# Altium schematic symbol library OLED.SchLib: 5 symbols
Pins are listed as number, name and electrical type; pins without a type are passive.

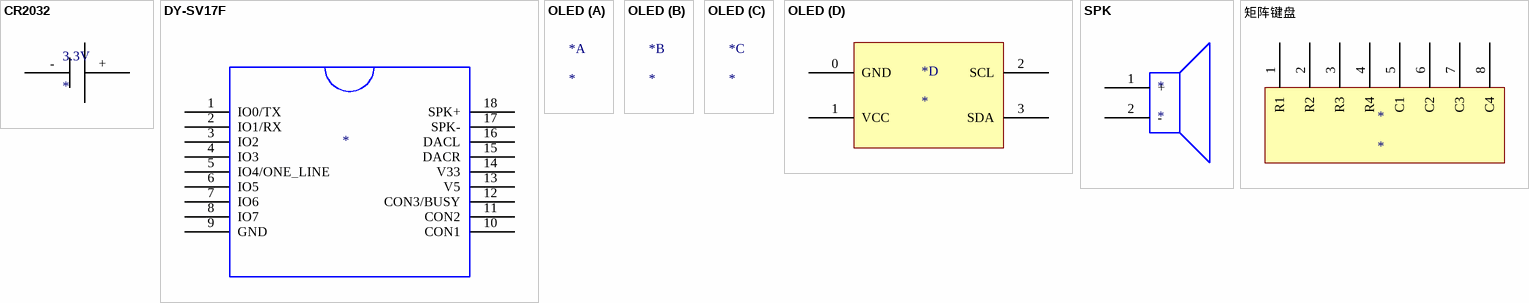
[diagram p0: symbols CR2032 to 矩阵键盘]

## CR2032
designator 3.3V
pins: + 1, - 2

## DY-SV17F
designator ?
pins: 1 IO0/TX, 2 IO1/RX, 3 IO2, 4 IO3, 5 IO4/ONE_LINE, 6 IO5, 7 IO6, 8 IO7, 9 GND, 10 CON1, 11 CON2, 12 CON3/BUSY, 13 V5, 14 V33, 15 DACR, 16 DACL, 17 SPK-, 18 SPK+

## OLED
designator *
part D pins: 0 GND, 1 VCC (power), 2 SCL, 3 SDA

## SPK
designator *
pins: 1 +, 2 -

## 矩阵键盘
designator *
pins: 1 R1, 2 R2, 3 R3, 4 R4, 5 C1, 6 C2, 7 C3, 8 C4